# Altium footprint library PCB22.PcbLib: 42 footprints (part 3 of 3)
Each footprint in its own frame and in the unit in brackets; x right, y up, seen from the top. Pads: shape width x height; smd on the part's side, far side on the other; paste and mask are expansions set on the pad; w line width, h text height; cw(c..) or ccw(c..) is an arc to the next point about the centre after c.
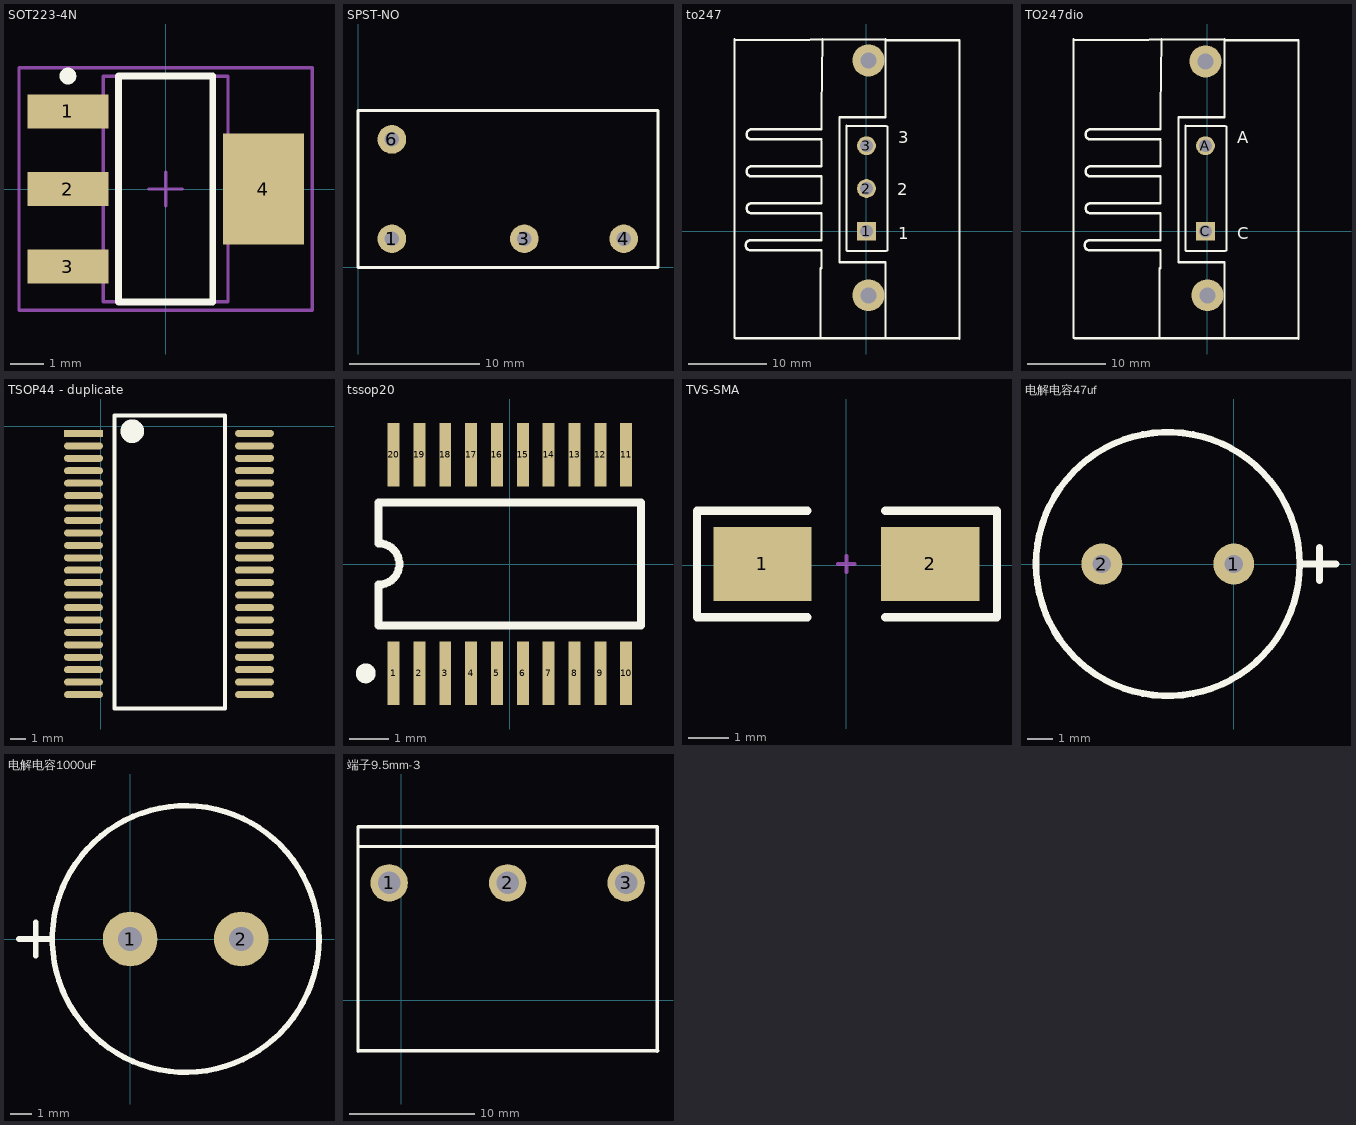
[diagram p2: the footprints below, top view; thin cyan lines are the x and y axes]

## SOT223-4N [mm] "SOT223, 4-Leads, Body 6.5x3.5mm, Pitch 2.3mm, Lead Span 7mm, IPC Medium Density"
height 1.7
pads (4):
  rect 2.4x1 smd: 1(-2.9,2.3) 2(-2.9,0) 3(-2.9,-2.3)
  rect 2.4x3.3 smd: 4(2.9,0)
Top Overlay:
  circle w0.25: c-2.9,3.35 r0.125
  lines w0.2: -1.4,-3.35 1.4,-3.35 1.4,3.35 -1.4,3.35 -1.4,-3.35
Mechanical 13:
  lines w0.1: -1.85,-3.35 1.85,-3.35 1.85,3.35 -1.85,3.35 -1.85,-3.35
Mechanical 15:
  lines w0.1: -0.5,0 0.5,0 ; 0,-0.5 0,0.5 ; -4.35,-3.6 4.35,-3.6 4.35,3.6 -4.35,3.6 -4.35,-3.6
3D body: height 1.7, standoff 0, extent -1.85,-3.35 1.85,3.35

## SPST-NO [mm]
pads (4):
  round 2.2 hole 1.1: 1(2.6,2.2) 3(12.76,2.2) 4(20.38,2.2) 6(2.6,9.82)
Top Overlay:
  lines w0.254: 0,0 0,12.032 23.012,12.032 23.012,0 0,0

## to247 [mm]
pads (5):
  rect 2.4x2.4 hole 1.6: 1(0,0)
  round 2.4 hole 1.6: 2(0,5.44) 3(0,10.88)
  round 4.064 hole 2.032: ""(0.254,-8.128) ""(0.254,21.717)
Top Overlay:
  lines w0.254: -16.764,-13.56 -16.764,24.44 ; -2.54,-2.413 -2.54,13.462 ; -2.5,-2.5 2.5,-2.5 ; -2.5,13.38 2.5,13.38 ; 2.667,-2.413 2.667,13.335 ; 11.811,-13.687 11.811,24.313
  lines w0.305: -16.764,24.257 2.413,24.384 2.413,14.478 -3.429,14.478 -3.429,-3.937 2.413,-3.937 2.413,-13.589 -16.637,-13.589 ; -14.732,-2.413 cw(c-14.732,-1.778) -14.732,-1.143 -5.715,-1.143 -5.715,2.286 -14.605,2.286 cw(c-14.605,2.921) -14.605,3.556 -5.715,3.556 -5.715,6.985 -14.605,6.985 cw(c-14.605,7.62) -14.605,8.255 -5.715,8.255 -5.715,11.43 ; -14.732,12.954 -5.715,12.954 -5.715,15.494 -5.588,24.384 ; -14.605,-2.413 -5.842,-2.413 ; -14.605,12.954 ccw(c-14.605,12.319) -14.605,11.684 -5.715,11.684 ; -5.842,-13.335 -5.842,-4.699 ; -5.715,-4.699 -5.715,-2.413 ; 2.286,-13.589 11.78,-13.589 ; 2.413,24.257 11.78,24.257
  text "3" at 4.064,11.176 h1.52
  text "2" at 3.937,4.572 h1.52
  text "1" at 4.064,-1.016 h1.52

## TO247dio [mil]
pads (4):
  round 94.49 hole 62.99: A(-10,428.35)
  rect 94.49x94.49 hole 62.99: C(-10,0)
  round 160 hole 80: ""(-10,850) ""(0,-320)
Top Overlay:
  lines w10: -670,-533.86 -670,962.2 ; -110,-95 -110,530 ; -108.43,-98.43 88.43,-98.43 ; -108.43,526.77 88.43,526.77 ; 95,-95 95,525 ; 455,-538.86 455,957.2
  lines w12: -670,955 85,960 85,570 -145,570 -145,-155 85,-155 85,-535 -665,-535 ; -590,-95 cw(c-590,-70) -590,-45 -235,-45 -235,90 -585,90 cw(c-585,115) -585,140 -235,140 -235,275 -585,275 cw(c-585,300) -585,325 -235,325 -235,450 ; -590,510 -235,510 -235,610 -230,960 ; -585,-95 -240,-95 ; -585,510 ccw(c-585,485) -585,460 -235,460 ; -240,-525 -240,-185 ; -235,-185 -235,-95 ; 80,-535 453.78,-535 ; 85,955 453.78,955
  text "A" at 150,440 h60
  text "C" at 150,-40 h60

## TSOP44 - duplicate [mm]
pads (44):
  rect 2.5x0.45 smd: 1(-1.1,-0.45)
  oval 2.5x0.45 smd: 2(-1.1,-1.25) 3(-1.1,-2.05) 4(-1.1,-2.85) 5(-1.1,-3.65) 6(-1.1,-4.45) 7(-1.1,-5.25) 8(-1.1,-6.05) 9(-1.1,-6.85) 10(-1.1,-7.65) 11(-1.1,-8.45) 12(-1.1,-9.25) 13(-1.1,-10.05) 14(-1.1,-10.85) 15(-1.1,-11.65) 16(-1.1,-12.45) 17(-1.1,-13.25) 18(-1.1,-14.05) 19(-1.1,-14.85) 20(-1.1,-15.65) 21(-1.1,-16.45) 22(-1.1,-17.25) 23(9.9,-17.25) 24(9.9,-16.45) 25(9.9,-15.65) 26(9.9,-14.85) 27(9.9,-14.05) 28(9.9,-13.25) 29(9.9,-12.45) 30(9.9,-11.65) 31(9.9,-10.85) 32(9.9,-10.05) 33(9.9,-9.25) 34(9.9,-8.45) 35(9.9,-7.65) 36(9.9,-6.85) 37(9.9,-6.05) 38(9.9,-5.25) 39(9.9,-4.45) 40(9.9,-3.65) 41(9.9,-2.85) 42(9.9,-2.05) 43(9.9,-1.25) 44(9.9,-0.45)
Top Overlay:
  circle w1: c2.032,-0.305 r0.259
  lines w0.254: 0.889,-18.136 8.001,-18.136 8.001,0.693 0.889,0.693 0.889,-18.136

## tssop20 [mm] "Shrink Small Outline; 20 Leads; Body Width 4.4 mm; Pitch 0.65 mm"
height 1.1
pads (20):
  rect 0.3x1.6 smd: 1(-2.925,-2.75) 2(-2.275,-2.75) 3(-1.625,-2.75) 4(-0.975,-2.75) 5(-0.325,-2.75) 6(0.325,-2.75) 7(0.975,-2.75) 8(1.625,-2.75) 9(2.275,-2.75) 10(2.925,-2.75) 11(2.925,2.75) 12(2.275,2.75) 13(1.625,2.75) 14(0.975,2.75) 15(0.325,2.75) 16(-0.325,2.75) 17(-0.975,2.75) 18(-1.625,2.75) 19(-2.275,2.75) 20(-2.925,2.75)
Top Overlay:
  circle w0.25: c-3.625,-2.75 r0.125
  lines w0.2: -3.3,-1.55 -3.3,-0.52 ccw(c-3.3,0) -3.3,0.52 -3.3,1.55 3.3,1.55 3.3,-1.55 -3.3,-1.55

## TVS-SMA [mm]
pads (2):
  rect 2.4x1.8 smd: 1(-2.05,0.025) 2(2.05,0.025)
Top Overlay:
  lines w0.2: -0.95,-1.275 -3.65,-1.275 -3.65,1.325 -0.95,1.325 ; 0.95,-1.275 3.683,-1.275 3.683,1.295 ; 0.95,1.325 3.683,1.325
Mechanical 1:
  lines w0.1: -0.2,0.025 0.2,0.025 ; 0,-0.175 0,0.225

## 电解电容47uf [mil] "5.04mm"
pads (2):
  round 62 hole 28: 1(0,0) 2(-200,0)
Top Overlay:
  circle w10: c-100,0 r200
  lines w10: 100,0 155,0 ; 130,-25 130,25

## 电解电容1000uF [mm]
pads (2):
  round 2.5 hole 1.1: 1(0,0) 2(5.08,0)
Top Overlay:
  circle w0.254: c2.54,0 r6.096
  lines w0.254: -5.08,0 -3.556,0 ; -4.318,-0.762 -4.318,0.762

## 端子9.5mm-3 [mm]
pads (3):
  round 3 hole 1.8: 1(-0.966,9.398) 2(8.534,9.398) 3(18.034,9.398)
Top Overlay:
  lines w0.254: -3.466,-4.102 -3.466,13.898 20.534,13.898 20.534,-4.102 ; -3.429,-4.064 11.611,-4.064 ; -3.429,12.319 20.447,12.319 ; 5.588,-4.064 20.588,-4.064